# EAGLE library part HEADER-12P (library Deegou_Connector)
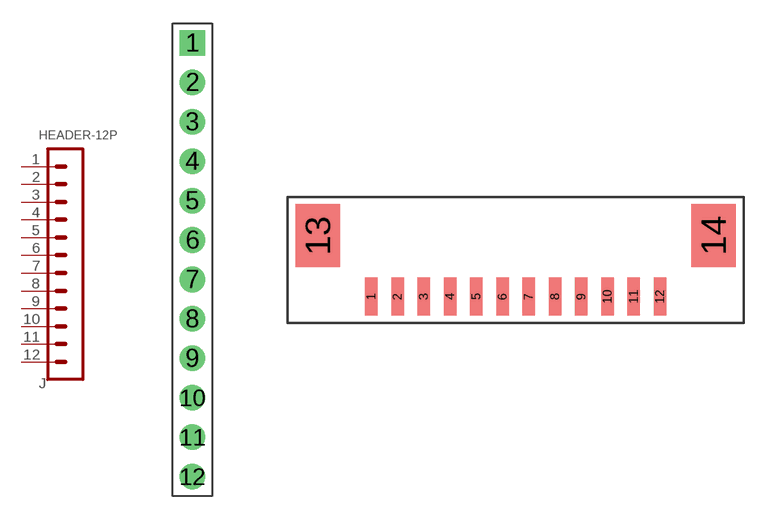
[diagram p32: symbol with the pads of 12P-2.54; footprints 12P-2.54, 1.25MM-12P]

Designator prefix J

## HEADER-12P-2.54  [12P-2.54]
1  1
2  2
3  3
4  4
5  5
6  6
7  7
8  8
9  9
10  10
11  11
12  12

## HEADER-12P-1.25MM  [1.25MM-12P]
Pads as for 12P-2.54

## HEADER-12P-5.08  [12P-SCREW-5.08]
Pads as for 12P-2.54

## Footprint 12P-2.54 (pad centres in mm)
drill 0.889 pad 1.651 square: 1 0,13.97
drill 0.889 pad 1.651: 2 0,11.43; 3 0,8.89; 4 0,6.35; 5 0,3.81; 6 0,1.27; 7 0,-1.27; 8 0,-3.81; 9 0,-6.35; 10 0,-8.89; 11 0,-11.43; 12 0,-13.97

## Footprint 1.25MM-12P (pad centres in mm)
smd 0.6 x 1.8: 1 -6.25,0; 2 -5,0; 3 -3.75,0; 4 -2.5,0; 5 -1.25,0; 6 0,0; 7 1.25,0; 8 2.5,0; 9 3.75,0; 10 5,0; 11 6.25,0; 12 7.5,0
smd 2.1 x 3: 13 -8.8,2.9; 14 10.05,2.9

## Footprint 12P-SCREW-5.08 (pad centres in mm)
drill 1.4 pad 2.54: 1 -27.94,0; 2 -22.86,0; 3 -17.78,0; 4 -12.7,0; 5 -7.62,0; 6 -2.54,0; 7 2.54,0; 8 7.62,0; 9 12.7,0; 10 17.78,0; 11 22.86,0; 12 27.94,0